# Altium footprint library YaoPCB.PCBLIB: 415 footprints (part 23 of 26)
Each footprint in its own frame and in the unit in brackets; x right, y up, seen from the top. Pads: shape width x height; smd on the part's side, far side on the other; paste and mask are expansions set on the pad; w line width, h text height; cw(c..) or ccw(c..) is an arc to the next point about the centre after c.
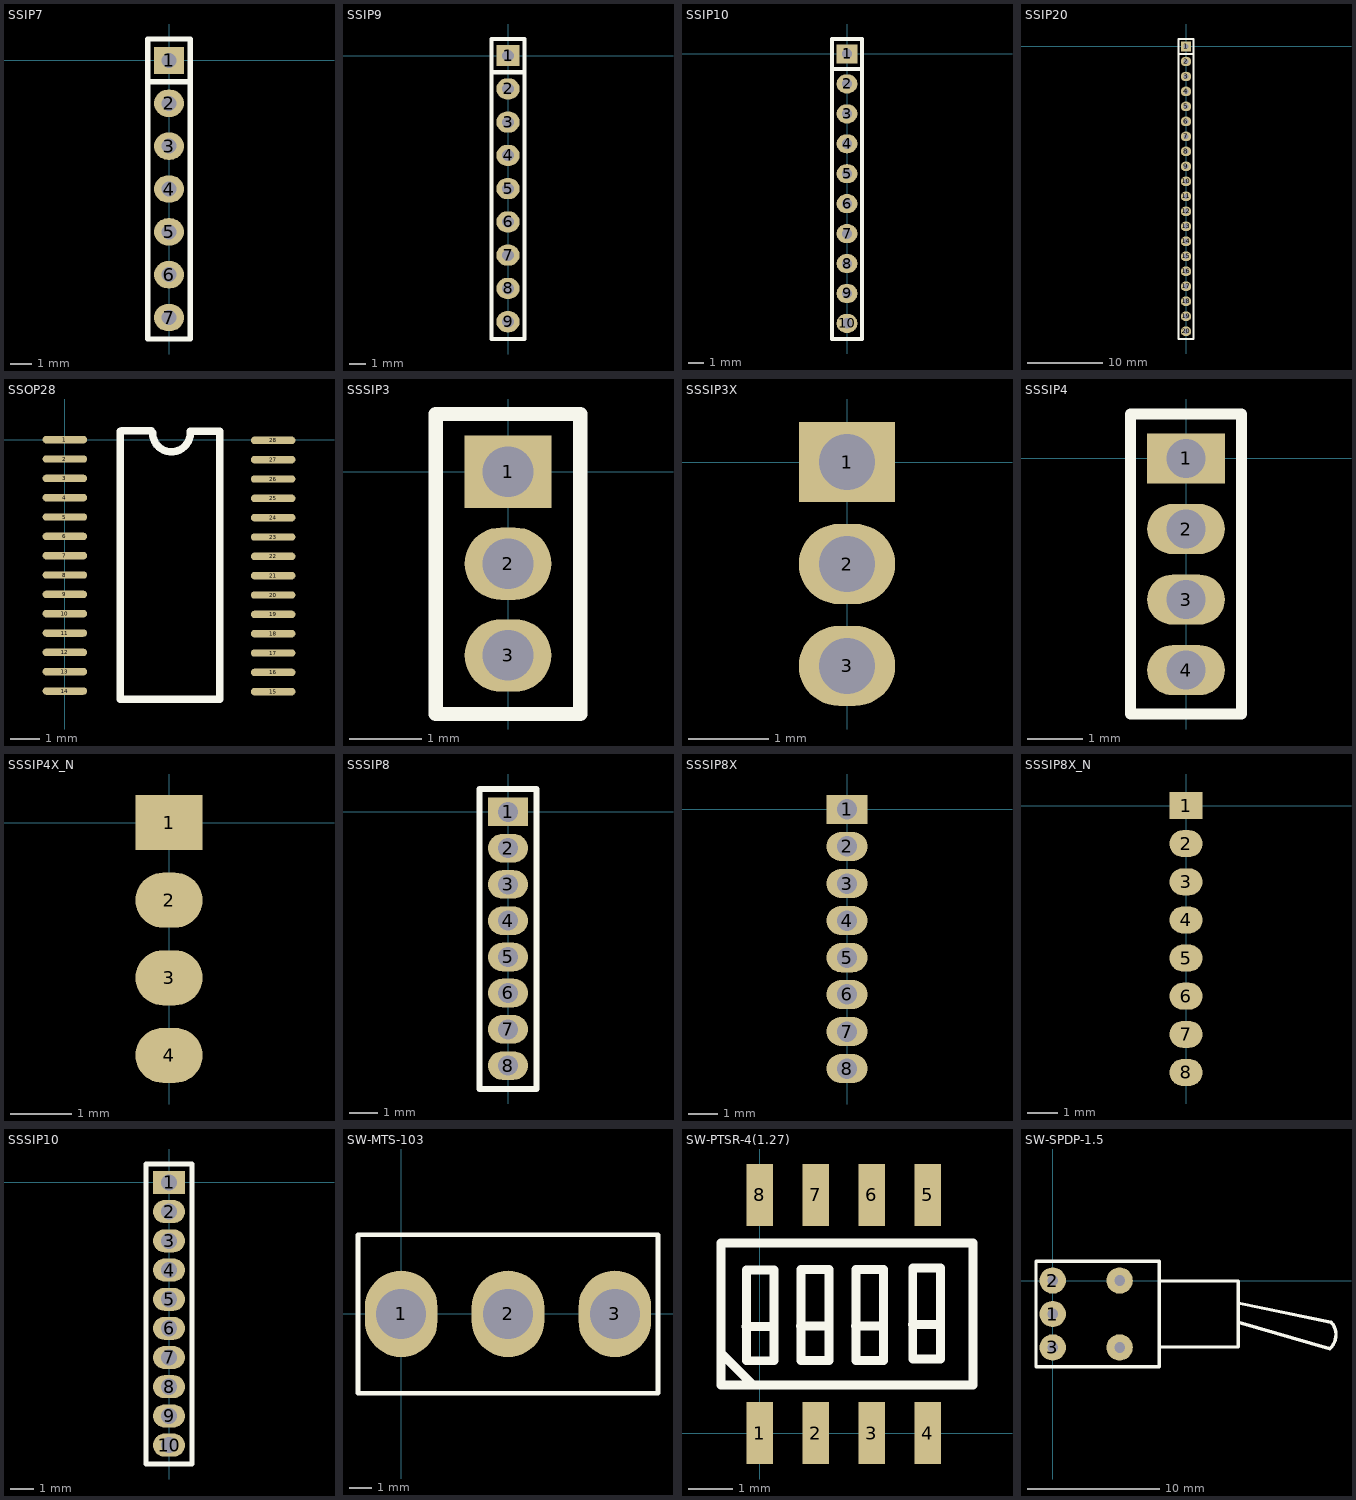
[diagram p22: the footprints below, top view; thin cyan lines are the x and y axes]

## SSIP7 [mm]
pads (7):
  rect 1.397x1.27 hole 0.7: 1(0,0)
  oval 1.397x1.27 hole 0.7: 2(0,-2) 3(0,-4) 4(0,-6) 5(0,-8) 6(0,-10) 7(0,-12)
TopOverlay:
  lines w0.254: -1,-1 1,-1 1,1 ; 1,1 1,-13 -1,-13 -1,1 1,1

## SSIP9 [mm]
pads (9):
  rect 1.397x1.27 hole 0.7: 1(0,0)
  oval 1.397x1.27 hole 0.7: 2(0,-2) 3(0,-4) 4(0,-6) 5(0,-8) 6(0,-10) 7(0,-12) 8(0,-14) 9(0,-16)
TopOverlay:
  lines w0.254: -1,-1 1,-1 1,1 ; 1,1 -1,1 -1,-17.04 1,-17.04 1,1

## SSIP10 [mm]
pads (10):
  rect 1.397x1.27 hole 0.7: 1(0,0)
  oval 1.397x1.27 hole 0.7: 2(0,-2) 3(0,-4) 4(0,-6) 5(0,-8) 6(0,-10) 7(0,-12) 8(0,-14) 9(0,-16) 10(0,-18)
TopOverlay:
  lines w0.254: -1,-1 1,-1 1,1 ; 1,1 1,-19.04 -1,-19.04 -1,1 1,1

## SSIP20 [mm]
pads (20):
  rect 1.397x1.27 hole 0.7: 1(0,0)
  oval 1.397x1.27 hole 0.7: 2(0,-2) 3(0,-4) 4(0,-6) 5(0,-8) 6(0,-10) 7(0,-12) 8(0,-14) 9(0,-16) 10(0,-18) 11(0,-20) 12(0,-22) 13(0,-24) 14(0,-26) 15(0,-28) 16(0,-30) 17(0,-32) 18(0,-34) 19(0,-36) 20(0,-38)
TopOverlay:
  lines w0.254: -1,-1 1,-1 1,1 ; 1,1 -1,1 -1,-39.03 1,-39.03 1,1

## SSOP28 [mm]
pads (28):
  oval 1.5x0.25 smd: 1(0,0) 2(0,-0.65) 3(0,-1.3) 4(0,-1.95) 5(0,-2.6) 6(0,-3.25) 7(0,-3.9) 8(0,-4.55) 9(0,-5.2) 10(0,-5.85) 11(0,-6.5) 12(0,-7.15) 13(0,-7.8) 14(0,-8.45) 15(7,-8.472) 16(7,-7.822) 17(7,-7.172) 18(7,-6.522) 19(7,-5.872) 20(7,-5.222) 21(7,-4.572) 22(7,-3.922) 23(7,-3.272) 24(7,-2.622) 25(7,-1.972) 26(7,-1.322) 27(7,-0.672) 28(7,-0.022)
TopOverlay:
  lines w0.254: 1.854,0.275 1.854,-8.721 5.206,-8.721 5.206,0.275 4.216,0.279 ; 1.905,0.305 2.896,0.305 ; 2.946,0.229 ccw(c3.581,0.229) 4.216,0.229

## SSSIP3 [mm]
pads (3):
  rect 1.2x1 hole 0.7: 1(0,0)
  oval 1.2x1 hole 0.7: 2(0,-1.27) 3(0,-2.54)
TopOverlay:
  lines w0.2: -1,-3.35 -1,0.8 1,0.8 1,-3.35 -1,-3.35

## SSSIP3X [mm]
pads (3):
  rect 1.2x1 hole 0.7: 1(0,0)
  oval 1.2x1 hole 0.7: 2(0,-1.27) 3(0,-2.54)

## SSSIP4 [mm]
pads (4):
  rect 1.397x0.9 hole 0.7: 1(0,0)
  oval 1.397x0.9 hole 0.7: 2(0,-1.27) 3(0,-2.54) 4(0,-3.81)
TopOverlay:
  lines w0.2: -1,-4.6 -1,0.8 1,0.8 1,-4.6 -1,-4.6

## SSSIP4X_N [mm]
pads (4):
  rect 1.1x0.9 smd: 1(0,0)
  oval 1.1x0.9 smd: 2(0,-1.27) 3(0,-2.54) 4(0,-3.81)

## SSSIP8 [mm]
pads (8):
  rect 1.397x1 hole 0.7: 1(0,0)
  oval 1.397x1 hole 0.7: 2(0,-1.27) 3(0,-2.54) 4(0,-3.81) 5(0,-5.08) 6(0,-6.34) 7(0,-7.61) 8(0,-8.88)
TopOverlay:
  lines w0.2: -1,-9.7 1,-9.7 1,0.8 -1,0.8 -1,-9.7

## SSSIP8X [mm]
pads (8):
  rect 1.397x1 hole 0.7: 1(0,0)
  oval 1.397x1 hole 0.7: 2(0,-1.27) 3(0,-2.54) 4(0,-3.81) 5(0,-5.08) 6(0,-6.34) 7(0,-7.61) 8(0,-8.88)

## SSSIP8X_N [mm]
pads (8):
  rect 1.1x0.9 smd: 1(0,0)
  oval 1.1x0.9 smd: 2(0,-1.27) 3(0,-2.54) 4(0,-3.81) 5(0,-5.08) 6(0,-6.35) 7(0,-7.62) 8(0,-8.89)

## SSSIP10 [mm]
pads (10):
  rect 1.397x1 hole 0.7: 1(0,0)
  oval 1.397x1 hole 0.7: 2(0,-1.27) 3(0,-2.54) 4(0,-3.81) 5(0,-5.08) 6(0,-6.34) 7(0,-7.61) 8(0,-8.88) 9(0,-10.15) 10(0,-11.42)
TopOverlay:
  lines w0.2: -1,-12.24 1,-12.24 1,0.8 -1,0.8 -1,-12.24

## SW-MTS-103 [mm]
pads (3):
  oval 3.2x3.8 hole 2.2: 1(0,0) 2(4.7,0) 3(9.4,0)
TopOverlay:
  lines w0.2: -1.9,-3.5 -1.9,3.49 11.3,3.49 11.3,-3.5 -1.9,-3.5

## SW-PTSR-4(1.27) [mm]
pads (8):
  rect 0.6x1.4 smd: 1(0,0) 2(1.27,0) 3(2.54,0) 4(3.81,0) 5(3.81,5.4) 6(2.54,5.4) 7(1.27,5.4) 8(0,5.4)
TopOverlay:
  lines w0.203: -0.88,1.85 -0.88,1.82 -0.15,1.09 ; -0.31,2.42 0.29,2.42 ; 0.93,2.43 1.53,2.43 ; 2.17,2.43 2.77,2.43 ; 3.46,2.46 4.06,2.46 ; -0.88,1.09 4.84,1.09 4.84,4.31 -0.88,4.31 -0.88,1.09 ; -0.3,1.64 -0.3,3.7 0.33,3.7 0.33,1.64 -0.3,1.64 ; 0.94,1.65 1.57,1.65 1.57,3.71 0.94,3.71 0.94,1.65 ; 2.18,1.65 2.81,1.65 2.81,3.71 2.18,3.71 2.18,1.65 ; 3.47,1.68 4.1,1.68 4.1,3.74 3.47,3.74 3.47,1.68

## SW-SPDP-1.5 [mm]
pads (5):
  round 2 hole 0.813: 1(0,-2.54) 2(0,0) 3(0,-5.08) ""(5.08,-5.08) ""(5.08,0)
TopOverlay:
  lines w0.254: 8.08,-5.04 14.08,-5.04 14.08,-0.04 8.08,-0.04 ; 14.08,-3.175 21.031,-5.182 ccw(c20.066,-4.115) 21.133,-3.15 ; 14.08,-1.702 21.107,-3.175 ; -1.27,-6.54 -1.27,1.46 8.08,1.46 8.08,-6.54 -1.27,-6.54